# Altium footprint library ANT_PCB_TAG_RTLS_2.PcbLib: 1 footprints
Each footprint in its own frame and in the unit in brackets; x right, y up, seen from the top. Pads: shape width x height; smd on the part's side, far side on the other; paste and mask are expansions set on the pad; w line width, h text height; cw(c..) or ccw(c..) is an arc to the next point about the centre after c.
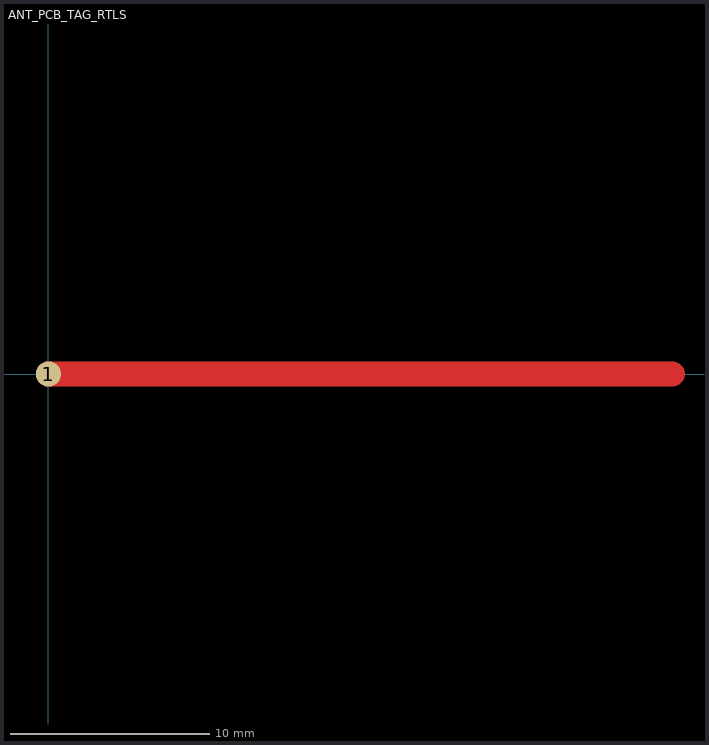
[diagram p0: the footprint, top view; thin cyan lines are the x and y axes]

## ANT_PCB_TAG_RTLS [mil]
pads (1):
  round 50 smd mask-1000: 1(0,0)
Top Layer:
  lines w50: 0,0 1230,0